# EAGLE library part NRF24 (library NRF24l01+)
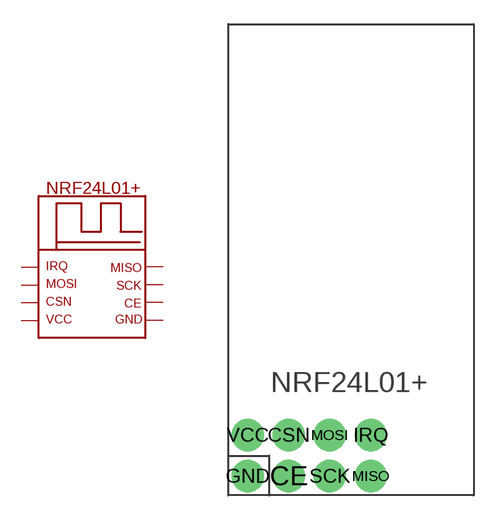
[diagram p0: symbol with the pads of NRF; footprint NRF]

Designator prefix -

## NRF24  [NRF]
CE  CE
CSN  CSN
GND  GND
IRQ  IRQ
MISO  MISO
MOSI  MOSI
SCK  SCK
VCC  VCC

## Footprint NRF (pad centres in mm)
drill 0.8 pad 2: CE 3.74,1.2; CSN 3.74,3.74; GND 1.2,1.2; IRQ 8.82,3.74; MISO 8.82,1.2; MOSI 6.28,3.74; SCK 6.28,1.2; VCC 1.2,3.74